# Altium footprint library Inductance.PcbLib: 2 footprints
Each footprint in its own frame and in the unit in brackets; x right, y up, seen from the top. Pads: shape width x height; smd on the part's side, far side on the other; paste and mask are expansions set on the pad; w line width, h text height; cw(c..) or ccw(c..) is an arc to the next point about the centre after c.
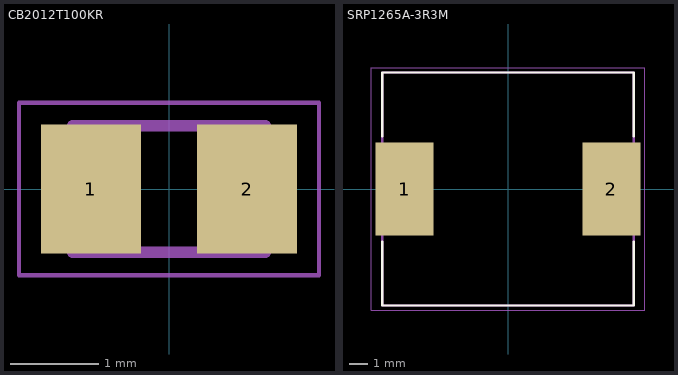
[diagram p0: the footprints below, top view; thin cyan lines are the x and y axes]

## CB2012T100KR [mm]
pads (2):
  rect 1.14x1.47 smd: 1(-0.89,0) 2(0.89,0)
Mechanical 13:
  lines w0.127: -1.1,-0.72 -1.1,0.72 1.1,0.72 1.1,-0.72 -1.1,-0.72
Mechanical 15:
  lines w0.05: -1.708,-0.983 -1.708,0.983 1.708,0.983 1.708,-0.983 -1.708,-0.983
3D body: height 1.25, standoff 0, extent -1.575,-0.85 -1.05,0.85
3D body: height 1.25, standoff 0, extent 1.025,-0.85 1.55,0.85
3D body: height 1.25, standoff 0, extent -1.05,-0.825 1.025,0.85

## SRP1265A-3R3M [mm]
pads (2):
  rect 3.1x5 smd: 1(-5.55,0) 2(5.55,0)
Top Overlay:
  lines w0.127: -6.75,-2.82 -6.75,-6.25 6.75,-6.25 6.75,-2.82 ; -6.75,2.82 -6.75,6.25 6.75,6.25 6.75,2.82
Mechanical 13:
  lines w0.127: -6.75,-6.25 -6.75,6.25 6.75,6.25 6.75,-6.25 -6.75,-6.25
Mechanical 15:
  lines w0.05: -7.35,-6.5 7.35,-6.5 7.35,6.5 -7.35,6.5 -7.35,-6.5
3D body: height 6.2, standoff 0, extent -6.731,-6.223 6.731,6.223